# Altium footprint library PcbLib2.PcbLib: 4 footprints
Each footprint in its own frame and in the unit in brackets; x right, y up, seen from the top. Pads: shape width x height; smd on the part's side, far side on the other; paste and mask are expansions set on the pad; w line width, h text height; cw(c..) or ccw(c..) is an arc to the next point about the centre after c.
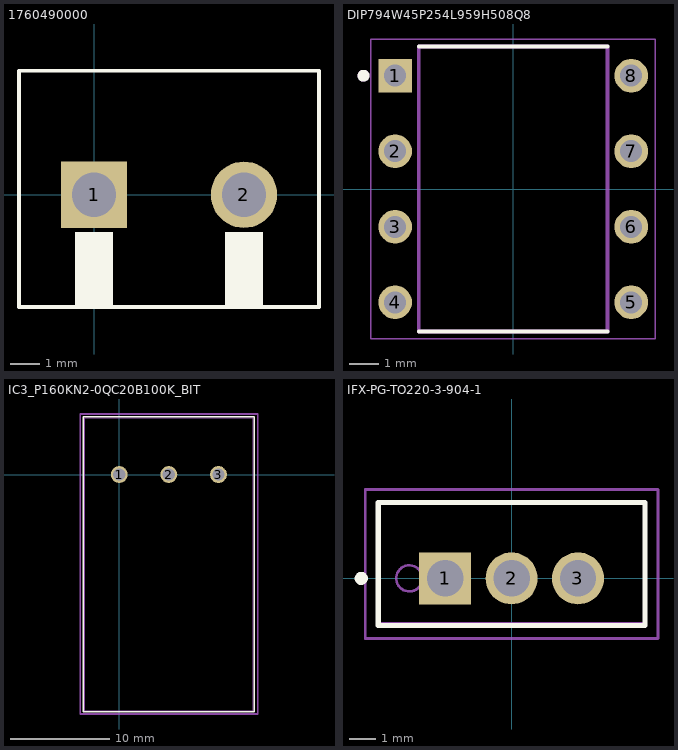
[diagram p0: the footprints below, top view; thin cyan lines are the x and y axes]

## 1760490000 [mm]
pads (2):
  rect 2.25x2.25 hole 1.5: 1(0,0)
  round 2.25 hole 1.5: 2(5.08,0)
Top Overlay:
  region: 5.715,-3.815 4.451,-3.815 4.451,-1.27 5.715,-1.27
  region: 0.635,-3.812 -0.635,-3.812 -0.635,-1.27 0.635,-1.27
  lines w0.127: -2.54,-3.8 7.62,-3.8 7.62,4.2 -2.54,4.2 -2.54,-3.8
3D body "1760510000--3DModel-STEP-764301.STEP": height 10.01, standoff -3.49, extent -3.015,-3.81 8.095,4.19

## DIP794W45P254L959H508Q8 [mm]
height 5.08
pads (8):
  rect 1.13x1.13 / inner round 1.13 / far side rect 1.13x1.13 hole 0.74 mask+0.102: 1(-3.97,3.81)
  round 1.13 hole 0.74 mask+0.102: 2(-3.97,1.27) 3(-3.97,-1.27) 4(-3.97,-3.81) 5(3.97,-3.81) 6(3.97,-1.27) 7(3.97,1.27) 8(3.97,3.81)
Top Overlay:
  circle w0.2: c-5.035,3.81 r0.1
  lines w0.127: -3.175,-4.795 3.175,-4.795 ; -3.175,4.795 3.175,4.795
Mechanical 13:
  circle w0.2: c-5.035,3.81 r0.1
  lines w0.127: -3.175,-4.795 -3.175,4.795 3.175,4.795 3.175,-4.795 -3.175,-4.795
Mechanical 15:
  lines w0.05: -4.785,-5.045 -4.785,5.045 4.785,5.045 4.785,-5.045 -4.785,-5.045
3D body "step_temp.STEP": height 5.08, standoff -3.18, extent -4.095,-4.795 4.095,4.795

## IC3_P160KN2-0QC20B100K_BIT [mil]
pads (3):
  round 67 hole 49 paste-99999 mask+0: 1(0,0) 2(196.85,0) 3(393.7,0)
Top Overlay:
  lines w6: -142.65,-941.59 -142.65,229.41 535,229.41 535,-941.59 -142.65,-941.59
  text ".Designator" at 59.35,-25 h50
Mechanical 13:
  lines w1: -137.65,-936.59 -137.65,224.41 531.35,224.41 531.35,-936.59 -137.65,-936.59
  text ".Designator" at 59.35,-25 h50
Mechanical 15:
  lines w6: -155,-950 -155,240 550,240 550,-950 -155,-950
3D body "P160KN2-0QC20B100K.stp": height 1047.27, standoff -156.84, extent -142.95,-919.65 532.95,237.83

## IFX-PG-TO220-3-904-1 [mm] "TO,flange mount,2.54 mm pitch, 3 pin, 10.16 mm L X 4.57 mm W X 20.56 mm H body"
height 20.56
pads (3):
  rect 1.99x1.99 hole 1.39 paste-2539.97 mask+0: 1(-2.54,0)
  round 1.99 hole 1.39 paste-2539.97 mask+0: 2(0,0) 3(2.54,0)
Top Overlay:
  circle w0.25: c-5.75,0 r0.125
  lines w0.2: -5.1,-1.8 -5.1,2.9 5.1,2.9 5.1,-1.8 -5.1,-1.8
Mechanical 3:
  text ".DESIGNATOR" at 0,0 h1.2
Mechanical 13:
  circle w0.1: c-3.912,0 r0.5
  lines w0.1: -5.08,-1.71 -5.08,2.86 5.08,2.86 5.08,-1.71 -5.08,-1.71
Mechanical 15:
  lines w0.1: -0.5,0 0.5,0 ; 0,-0.5 0,0.5 ; -5.6,-2.3 -5.6,3.4 5.6,3.4 5.6,-2.3 -5.6,-2.3
3D body "PG-TO220-3-904_Z8B00198139_V06_3D.stp": height 19.84, standoff -10.77, extent -5.156,-1.72 5.156,2.86